# EAGLE library part DF13-6 (library df13)
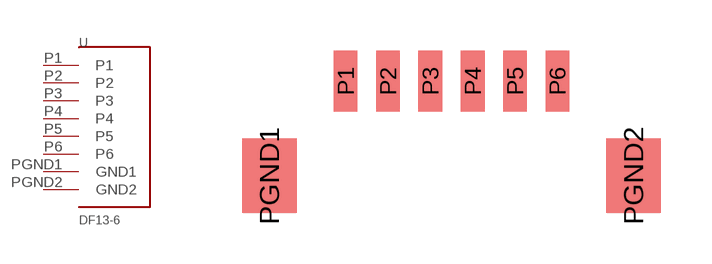
[diagram p0: symbol with the pads of DF13-6; footprint DF13-6]

Designator prefix -

## DF13-6  [DF13-6]
P1  P1
P2  P2
P3  P3
P4  P4
P5  P5
P6  P6
PGND1  GND1  pwr
PGND2  GND2  pwr

## Footprint DF13-6 (pad centres in mm)
smd 0.7 x 1.8: P1 -3.125,2.8; P2 -1.875,2.8; P3 -0.625,2.8; P4 0.625,2.8; P5 1.875,2.8; P6 3.125,2.8
smd 1.6 x 2.2: PGND1 -5.375,0; PGND2 5.375,0